# Altium footprint library ONSC-TO-225-3-77-09.PcbLib: 1 footprints
Each footprint in its own frame and in the unit in brackets; x right, y up, seen from the top. Pads: shape width x height; smd on the part's side, far side on the other; paste and mask are expansions set on the pad; w line width, h text height; cw(c..) or ccw(c..) is an arc to the next point about the centre after c.
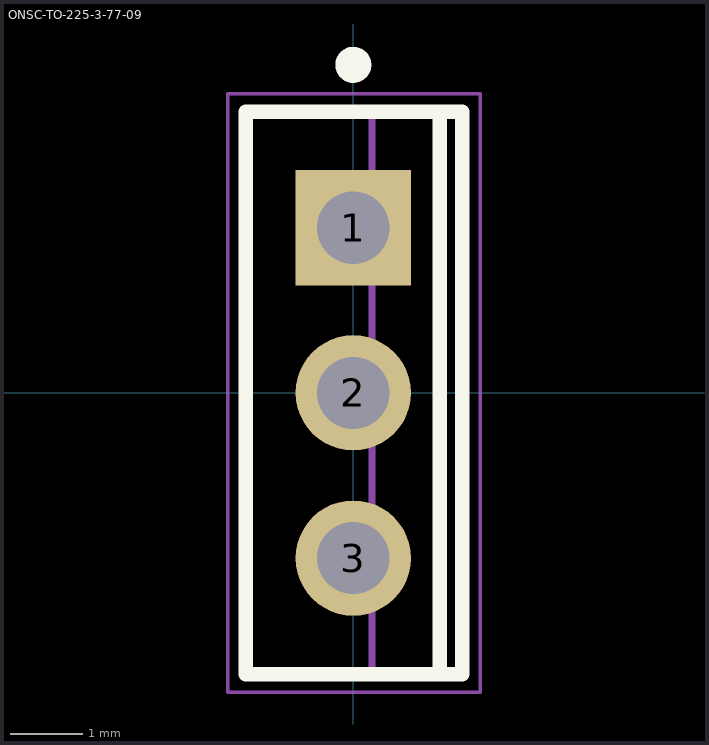
[diagram p0: the footprint, top view; thin cyan lines are the x and y axes]

## ONSC-TO-225-3-77-09 [mm] "FM, 3-Leads, Body 7.8x3mm, Pitch 2.29mm"
height 13.64
pads (3):
  rect 1.6x1.6 hole 1: 1(0,2.29)
  round 1.6 hole 1: 2(0,0) 3(0,-2.29)
Top Overlay:
  circle w0.25: c0,4.55 r0.125
  lines w0.2: 1.2,-3.9 1.2,3.9 ; -1.49,-3.9 1.51,-3.9 1.51,3.9 -1.49,3.9 -1.49,-3.9
Mechanical 13:
  lines w0.1: 0.26,-3.9 0.26,3.9 ; -1.49,-3.9 -1.49,3.9 1.51,3.9 1.51,-3.9 -1.49,-3.9
Mechanical 15:
  lines w0.05: -1.74,-4.15 -1.74,4.15 1.76,4.15 1.76,-4.15 -1.74,-4.15
  lines w0.1: -0.5,0 0.5,0 ; 0,-0.5 0,0.5
3D body: height 1.27, standoff 0, extent -0.255,1.74 0.255,2.84
3D body: height 0, standoff -1.6, extent -0.255,1.915 0.255,2.665
3D body: height 1.27, standoff 0, extent -0.255,-0.55 0.255,0.55
3D body: height 0, standoff -1.6, extent -0.255,-0.375 0.255,0.375
3D body: height 1.27, standoff 0, extent -0.255,-2.84 0.255,-1.74
3D body: height 0, standoff -1.6, extent -0.255,-2.665 0.255,-1.915
3D body: height 13.64, standoff 1.27, extent -1.49,-3.9 1.51,3.9
3D body: height 13.64, standoff 13.64, extent 0.26,-3.8 1.51,3.8